# Altium footprint library TTC_Lib.PcbLib: 21 footprints (part 2 of 2)
Each footprint in its own frame and in the unit in brackets; x right, y up, seen from the top. Pads: shape width x height; smd on the part's side, far side on the other; paste and mask are expansions set on the pad; w line width, h text height; cw(c..) or ccw(c..) is an arc to the next point about the centre after c.
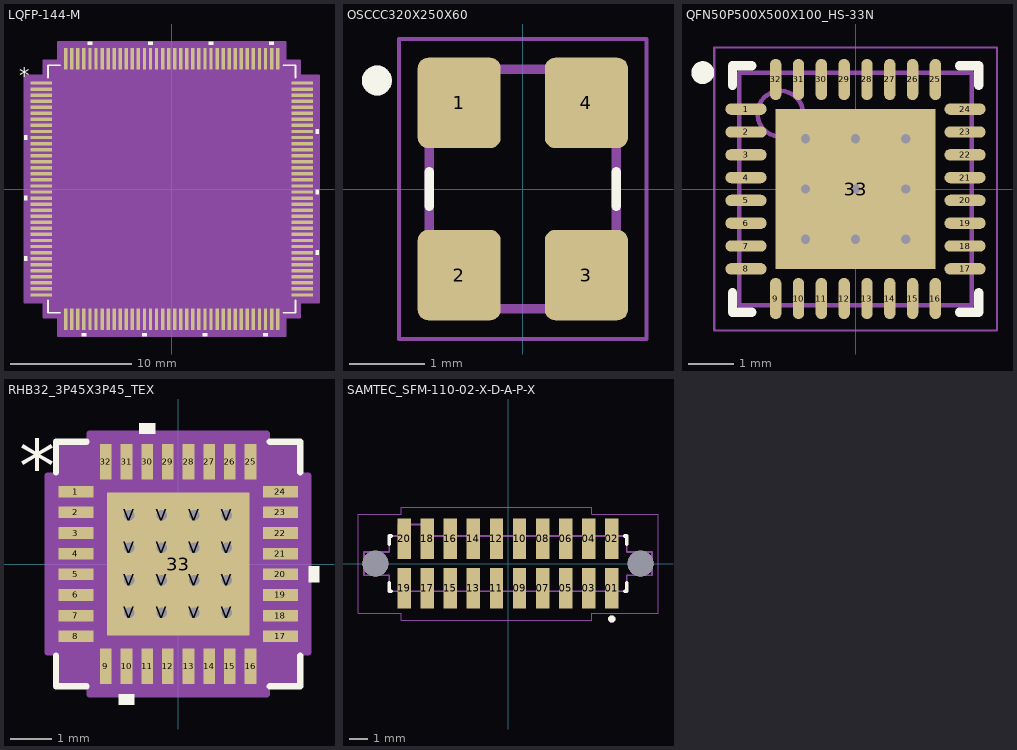
[diagram p1: the footprints below, top view; thin cyan lines are the x and y axes]

## LQFP-144-M [mil]
pads (144):
  rect 70x11 smd paste+0 mask+0: 1(-424,344.49) 2(-424,324.8) 3(-424,305.12) 4(-424,285.43) 5(-424,265.75) 6(-424,246.06) 7(-424,226.38) 8(-424,206.69) 9(-424,187.01) 10(-424,167.32) 11(-424,147.64) 12(-424,127.95) 13(-424,108.27) 14(-424,88.58) 15(-424,68.9) 16(-424,49.21) 17(-424,29.53) 18(-424,9.84) 19(-424,-9.84) 20(-424,-29.53) 21(-424,-49.21) 22(-424,-68.9) 23(-424,-88.58) 24(-424,-108.27) 25(-424,-127.95) 26(-424,-147.64) 27(-424,-167.32) 28(-424,-187.01) 29(-424,-206.69) 30(-424,-226.38) 31(-424,-246.06) 32(-424,-265.75) 33(-424,-285.43) 34(-424,-305.12) 35(-424,-324.8) 36(-424,-344.49) 73(424,-344.49) 74(424,-324.8) 75(424,-305.12) 76(424,-285.43) 77(424,-265.75) 78(424,-246.06) 79(424,-226.38) 80(424,-206.69) 81(424,-187.01) 82(424,-167.32) 83(424,-147.64) 84(424,-127.95) 85(424,-108.27) 86(424,-88.58) 87(424,-68.9) 88(424,-49.21) 89(424,-29.53) 90(424,-9.84) 91(424,9.84) 92(424,29.53) 93(424,49.21) 94(424,68.9) 95(424,88.58) 96(424,108.27) 97(424,127.95) 98(424,147.64) 99(424,167.32) 100(424,187.01) 101(424,206.69) 102(424,226.38) 103(424,246.06) 104(424,265.75) 105(424,285.43) 106(424,305.12) 107(424,324.8) 108(424,344.49)
  rect 11x70 smd paste+0 mask+0: 37(-344.49,-424) 38(-324.8,-424) 39(-305.12,-424) 40(-285.43,-424) 41(-265.75,-424) 42(-246.06,-424) 43(-226.38,-424) 44(-206.69,-424) 45(-187.01,-424) 46(-167.32,-424) 47(-147.64,-424) 48(-127.95,-424) 49(-108.27,-424) 50(-88.58,-424) 51(-68.9,-424) 52(-49.21,-424) 53(-29.53,-424) 54(-9.84,-424) 55(9.84,-424) 56(29.53,-424) 57(49.21,-424) 58(68.9,-424) 59(88.58,-424) 60(108.27,-424) 61(127.95,-424) 62(147.64,-424) 63(167.32,-424) 64(187.01,-424) 65(206.69,-424) 66(226.38,-424) 67(246.06,-424) 68(265.75,-424) 69(285.43,-424) 70(305.12,-424) 71(324.8,-424) 72(344.49,-424) 109(344.49,424) 110(324.8,424) 111(305.12,424) 112(285.43,424) 113(265.75,424) 114(246.06,424) 115(226.38,424) 116(206.69,424) 117(187.01,424) 118(167.32,424) 119(147.64,424) 120(127.95,424) 121(108.27,424) 122(88.58,424) 123(68.9,424) 124(49.21,424) 125(29.53,424) 126(9.84,424) 127(-9.84,424) 128(-29.53,424) 129(-49.21,424) 130(-68.9,424) 131(-88.58,424) 132(-108.27,424) 133(-127.95,424) 134(-147.64,424) 135(-167.32,424) 136(-187.01,424) 137(-206.69,424) 138(-226.38,424) 139(-246.06,424) 140(-265.75,424) 141(-285.43,424) 142(-305.12,424) 143(-324.8,424) 144(-344.49,424)
Top Overlay:
  region: -258.25,469 -273.25,469 -273.25,479 -258.25,479
  region: -61.4,469 -76.4,469 -76.4,479 -61.4,479
  region: 135.45,469 120.45,469 120.45,479 135.45,479
  region: 332.3,469 317.3,469 317.3,479 332.3,479
  region: 469,194.51 479,194.51 479,179.51 469,179.51
  region: 469,-2.34 479,-2.34 479,-17.34 469,-17.34
  region: 469,-199.19 479,-199.19 479,-214.19 469,-214.19
  region: 312.62,-469 297.62,-469 297.62,-479 312.62,-479
  region: 115.77,-469 100.77,-469 100.77,-479 115.77,-479
  region: -81.08,-469 -96.08,-469 -96.08,-479 -81.08,-479
  region: -277.93,-469 -292.93,-469 -292.93,-479 -277.93,-479
  region: -469,-218.88 -479,-218.88 -479,-233.88 -469,-233.88
  region: -469,-22.03 -479,-22.03 -479,-37.03 -469,-37.03
  region: -469,174.82 -479,174.82 -479,159.82 -469,159.82
  lines w6: -402.5,-363.09 -402.5,-402.5 -363.09,-402.5 ; -402.5,363.09 -402.5,402.5 -363.09,402.5 ; 363.09,-402.5 402.5,-402.5 402.5,-363.09 ; 363.09,402.5 402.5,402.5 402.5,363.09
  text "*" at -496.5,344.33 h50
Mechanical 13:
  drawing of 581 lines, arcs and shapes, not listed
  text "*" at -395,329.33 h50
Mechanical 15:
  region: -369.99,-417.5 -417.5,-417.5 -417.5,-369.99 -479,-369.99 -479,369.99 -417.5,369.99 -417.5,417.5 -369.99,417.5 -369.99,479 369.99,479 369.99,417.5 417.5,417.5 417.5,369.99 479,369.99 479,-369.99 417.5,-369.99 417.5,-417.5 369.99,-417.5 369.99,-479 -369.99,-479
  lines w6: -479,-369.99 -479,369.99 -417.5,369.99 -417.5,417.5 -369.99,417.5 -369.99,479 369.99,479 369.99,417.5 417.5,417.5 417.5,369.99 479,369.99 479,-369.99 417.5,-369.99 417.5,-417.5 369.99,-417.5 369.99,-479 -369.99,-479 -369.99,-417.5 -417.5,-417.5 -417.5,-369.99 -479,-369.99
3D body "LQFP-144.step": height 63.11, standoff 0, extent -437.01,-437.01 437.01,437.01

## OSCCC320X250X60 [mm]
pads (4):
  rrect25% 1.11x1.21 smd: 1(-0.85,1.15) 2(-0.85,-1.15) 3(0.85,-1.15) 4(0.85,1.15)
Top Overlay:
  circle w0.2: c-1.95,1.45 r0.1
  lines w0.127: -1.25,-0.232 -1.25,0.232 ; 1.25,-0.232 1.25,0.232
Mechanical 13:
  circle w0.2: c-1.95,1.45 r0.1
  lines w0.127: -1.25,-1.6 -1.25,1.6 1.25,1.6 1.25,-1.6 -1.25,-1.6
Mechanical 15:
  lines w0.05: -1.655,-2.005 -1.655,2.005 1.655,2.005 1.655,-2.005 -1.655,-2.005

## QFN50P500X500X100_HS-33N [mm] "QFN, 32-Leads, Body 5.00x5.00mm, Pitch 0.50mm, Thermal Pad 3.50x3.50mm, IPC Medium Density"
height 1
pads (33):
  oval 0.9x0.25 smd: 1(-2.4,1.75) 2(-2.4,1.25) 3(-2.4,0.75) 4(-2.4,0.25) 5(-2.4,-0.25) 6(-2.4,-0.75) 7(-2.4,-1.25) 8(-2.4,-1.75) 17(2.4,-1.75) 18(2.4,-1.25) 19(2.4,-0.75) 20(2.4,-0.25) 21(2.4,0.25) 22(2.4,0.75) 23(2.4,1.25) 24(2.4,1.75)
  oval 0.25x0.9 smd: 9(-1.75,-2.4) 10(-1.25,-2.4) 11(-0.75,-2.4) 12(-0.25,-2.4) 13(0.25,-2.4) 14(0.75,-2.4) 15(1.25,-2.4) 16(1.75,-2.4) 25(1.75,2.4) 26(1.25,2.4) 27(0.75,2.4) 28(0.25,2.4) 29(-0.25,2.4) 30(-0.75,2.4) 31(-1.25,2.4) 32(-1.75,2.4)
  rect 3.5x3.5 smd: 33(0,0)
via 1.1,-1.1 diameter 0.5 hole 0.2
via 0,-1.1 diameter 0.5 hole 0.2
via -1.1,-1.1 diameter 0.5 hole 0.2
via 1.1,0 diameter 0.5 hole 0.2
via 0,0 diameter 0.5 hole 0.2
via -1.1,0 diameter 0.5 hole 0.2
via 1.1,1.1 diameter 0.5 hole 0.2
via 0,1.1 diameter 0.5 hole 0.2
via -1.1,1.1 diameter 0.5 hole 0.2
Top Overlay:
  circle w0.25: c-3.35,2.55 r0.125
  lines w0.2: -2.7,-2.275 -2.7,-2.7 -2.275,-2.7 ; -2.7,2.275 -2.7,2.7 -2.275,2.7 ; 2.275,-2.7 2.7,-2.7 2.7,-2.275 ; 2.275,2.7 2.7,2.7 2.7,2.275
Mechanical 13:
  circle w0.1: c-1.65,1.65 r0.5
  lines w0.1: -2.55,-2.55 2.55,-2.55 2.55,2.55 -2.55,2.55 -2.55,-2.55
Mechanical 15:
  lines w0.05: -3.1,-3.1 3.1,-3.1 3.1,3.1 -3.1,3.1 -3.1,-3.1
  lines w0.1: -0.5,0 0.5,0 ; 0,-0.5 0,0.5
3D body: height 1, standoff 0.05, extent -2.55,-2.55 2.55,2.55

## RHB32_3P45X3P45_TEX [mil]
pads (49):
  rect 33.46x11.02 smd paste-16.23 mask+0: 1(-97.44,68.9) 2(-97.44,49.21) 3(-97.44,29.53) 4(-97.44,9.84) 5(-97.44,-9.84) 6(-97.44,-29.53) 7(-97.44,-49.21) 8(-97.44,-68.9) 17(97.44,-68.9) 18(97.44,-49.21) 19(97.44,-29.53) 20(97.44,-9.84) 21(97.44,9.84) 22(97.44,29.53) 23(97.44,49.21) 24(97.44,68.9)
  rect 11.02x33.46 smd paste-16.23 mask+0: 9(-68.92,-97.44) 10(-49.23,-97.44) 11(-29.54,-97.44) 12(-9.85,-97.44) 13(9.85,-97.44) 14(29.54,-97.44) 15(49.23,-97.44) 16(68.92,-97.44) 25(68.92,97.44) 26(49.23,97.44) 27(29.54,97.44) 28(9.85,97.44) 29(-9.85,97.44) 30(-29.54,97.44) 31(-49.23,97.44) 32(-68.92,97.44)
  rect 135.83x135.83 smd paste-67.41 mask-67.5: 33(0,0)
  round 20 hole 10 paste-99999 mask-10: V(-46.5,-46.5) V(-46.5,-15.5) V(-46.5,15.5) V(-46.5,46.5) V(-15.5,-46.5) V(-15.5,-15.5) V(-15.5,15.5) V(-15.5,46.5) V(15.5,-46.5) V(15.5,-15.5) V(15.5,15.5) V(15.5,46.5) V(46.5,-46.5) V(46.5,-15.5) V(46.5,15.5) V(46.5,46.5)
Top Overlay:
  region: -22.04,124.17 -37.03,124.17 -37.03,134.17 -22.04,134.17
  region: 124.17,-2.34 134.17,-2.34 134.17,-17.34 124.17,-17.34
  region: -41.73,-124.17 -56.73,-124.17 -56.73,-134.17 -41.73,-134.17
  lines w6: -116.38,-87.32 -116.38,-116.38 -87.34,-116.38 ; -116.38,87.32 -116.38,116.38 -87.34,116.38 ; 87.34,-116.38 116.38,-116.38 116.38,-87.32 ; 87.34,116.38 116.38,116.38 116.38,87.32
  text "*" at -151.67,68.74 h50
Top Paste:
  drawing of 25 lines, arcs and shapes, not listed
Top Solder:
  region: 54.37,-70.41 54.37,70.41 70.41,70.41 70.41,-70.41
  region: 38.63,-70.41 38.63,70.41 23.37,70.41 23.37,-70.41
  region: 7.63,-70.41 7.63,70.41 -7.63,70.41 -7.63,-70.41
  region: -23.37,-70.41 -23.37,70.41 -38.63,70.41 -38.63,-70.41
  region: -70.41,-70.41 -70.41,70.41 -54.37,70.41 -54.37,-70.41
  region: -70.41,-70.41 -70.41,-54.37 70.41,-54.37 70.41,-70.41
  region: -70.41,-38.63 -70.41,-23.37 70.41,-23.37 70.41,-38.63
  region: -70.41,-7.63 -70.41,7.63 70.41,7.63 70.41,-7.63
  region: -70.41,23.37 -70.41,38.63 70.41,38.63 70.41,23.37
  region: -70.41,54.37 -70.41,70.41 70.41,70.41 70.41,54.37
Mechanical 13:
  lines w1: -101.38,51.38 -51.38,101.38 ; -101.38,-101.38 -101.38,101.38 101.38,101.38 101.38,-101.38 -101.38,-101.38
  text "*" at -83.21,53.74 h50
Mechanical 15:
  region: -84.43,-111.38 -111.38,-111.38 -111.38,-84.41 -124.17,-84.41 -124.17,84.41 -111.38,84.41 -111.38,111.38 -84.43,111.38 -84.43,124.17 84.43,124.17 84.43,111.38 111.38,111.38 111.38,84.41 124.17,84.41 124.17,-84.41 111.38,-84.41 111.38,-111.38 84.43,-111.38 84.43,-124.17 -84.43,-124.17
  lines w6: -124.17,-84.41 -124.17,84.41 -111.38,84.41 -111.38,111.38 -84.43,111.38 -84.43,124.17 84.43,124.17 84.43,111.38 111.38,111.38 111.38,84.41 124.17,84.41 124.17,-84.41 111.38,-84.41 111.38,-111.38 84.43,-111.38 84.43,-124.17 -84.43,-124.17 -84.43,-111.38 -111.38,-111.38 -111.38,-84.41 -124.17,-84.41
3D body "RHB32_3P45X3P45_TEX.step": height 55.12, standoff 0, extent -103.39,-103.39 103.39,103.39

## SAMTEC_SFM-110-02-X-D-A-P-X [mil]
height 193.31
pads (22):
  rect 29x87.5 smd: 01(225,-53.75) 02(225,53.75) 03(175,-53.75) 04(175,53.75) 05(125,-53.75) 06(125,53.75) 07(75,-53.75) 08(75,53.75) 09(25,-53.75) 10(25,53.75) 11(-25,-53.75) 12(-25,53.75) 13(-75,-53.75) 14(-75,53.75) 15(-125,-53.75) 16(-125,53.75) 17(-175,-53.75) 18(-175,53.75) 19(-225,-53.75) 20(-225,53.75)
  round 56 hole 56 unplated: ""(-287.5,0) ""(287.5,0)
Top Overlay:
  circle w7.87: c225,-120 r3.94
  lines w7.87: -257.5,-41.78 -257.5,-60 -253.28,-60 ; -257.5,41.78 -257.5,60 -253.28,60 ; 253.28,-60 257.5,-60 257.5,-41.78 ; 253.28,60 257.5,60 257.5,41.78
Mechanical 13:
  circle w7.87: c225,-120 r3.94
  lines w3.94: -312.5,-25 -257.5,-25 -257.5,-60 257.5,-60 257.5,-25 312.5,-25 312.5,25 257.5,25 257.5,60 -177.5,60 -177.5,85 -237.5,85 -237.5,60 -257.5,60 -257.5,25 -312.5,25 -312.5,-25
Mechanical 15:
  lines w1.97: -325.34,-107.34 -231.84,-107.34 -231.84,-122.34 181.84,-122.34 181.84,-107.34 325.34,-107.34 325.34,107.34 181.84,107.34 181.84,122.34 -231.84,122.34 -231.84,107.34 -325.34,107.34 -325.34,-107.34